# EAGLE library part LM3481 (library texas-instruments)
Low-Side N-Channel Controller High Efficiency for Switching Regulators
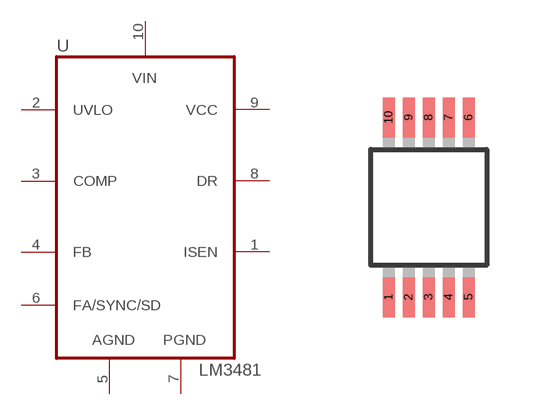
[diagram p9: symbol with the pads of MSOP10; footprint MSOP10]

Designator prefix U

## LM3481 (DIGIKEY: LM3481MM/NOPBTR-ND; P1I: o)  [MSOP10]
1  ISEN  in
2  UVLO  in
3  COMP  in
4  FB  in
5  AGND  pwr
6  FA/SYNC/SD  in
7  PGND  pwr
8  DR  out
9  VCC  pwr
10  VIN  pas

## Footprint MSOP10 (pad centres in mm)
10-Lead microSOIC (RM-10) 10-µSOIC
smd 0.3 x 1: 1 -1,-2.25; 2 -0.5,-2.25; 3 0,-2.25; 4 0.5,-2.25; 5 1,-2.25; 6 1,2.25; 7 0.5,2.25; 8 0,2.25; 9 -0.5,2.25; 10 -1,2.25